# Altium footprint library PCB - CONNECTOR - USB - Molex 1054500101.PcbLib: 1 footprints
Each footprint in its own frame and in the unit in brackets; x right, y up, seen from the top. Pads: shape width x height; smd on the part's side, far side on the other; paste and mask are expansions set on the pad; w line width, h text height; cw(c..) or ccw(c..) is an arc to the next point about the centre after c.
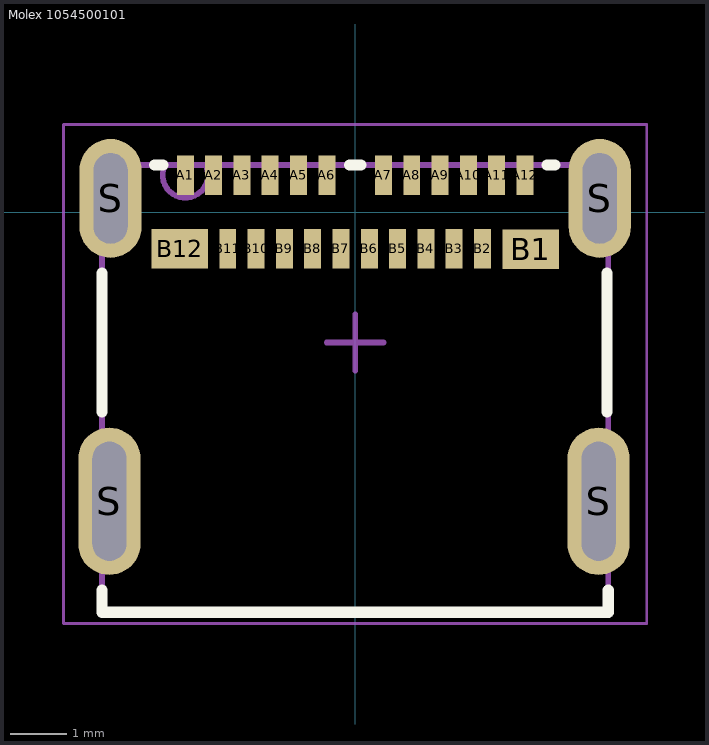
[diagram p0: the footprint, top view; thin cyan lines are the x and y axes]

## Molex 1054500101 [mm] "USB-C Receptacle Connector 24 Position Surface Mount, 24 Position, Body 8.94x7.90mm"
height 3.24
pads (28):
  rect 0.3x0.7 smd: A1(-3,0.655) A2(-2.5,0.655) A3(-2,0.655) A4(-1.5,0.655) A5(-1,0.655) A6(-0.5,0.655) A7(0.5,0.655) A8(1,0.655) A9(1.5,0.655) A10(2,0.655) A11(2.5,0.655) A12(3,0.655) B2(2.25,-0.645) B3(1.75,-0.645) B4(1.25,-0.645) B5(0.75,-0.645) B6(0.25,-0.645) B7(-0.25,-0.645) B8(-0.75,-0.645) B9(-1.25,-0.645) B10(-1.75,-0.645) B11(-2.25,-0.645)
  rect 1x0.7 smd: B1(3.1,-0.655) B12(-3.1,-0.645)
  oval 1.1x2.6 hole 2.1 slot 0.6 at 0 deg: S(-4.34,-5.105) S(4.3,-5.105)
  oval 1.1x2.1 hole 1.6 slot 0.6 at 0 deg: S(-4.32,0.245) S(4.32,0.245)
Top Overlay:
  lines w0.2: -4.47,-6.675 -4.47,-7.065 4.47,-7.065 4.47,-6.675 ; -4.47,-3.525 -4.47,-1.075 ; -3.54,0.835 -3.465,0.835 -3.4,0.835 ; -0.1,0.835 0,0.835 0.1,0.835 ; 3.39,0.835 3.465,0.835 3.53,0.835 ; 4.45,-3.525 4.45,-1.075
Mechanical 13:
  lines w0.1: -3.368,0.813 ccw(c-3,0.655) -2.632,0.813 ; -4.47,-7.065 -4.47,0.835 4.47,0.835 4.47,-7.065 -4.47,-7.065
Mechanical 15 (Mech15):
  lines w0.05: -5.15,-7.265 -5.15,1.55 5.15,1.55 5.15,-7.265 -5.15,-7.265
  lines w0.1: -0.5,-2.3 0,-2.3 ; 0,-2.8 0,-2.3 ; 0,-1.8 0,-2.3 ; 0.5,-2.3 0,-2.3
3D body "Molex - 1054500101 v7.step": height 3.21, standoff -0.75, extent -4.47,-7.065 4.47,0.835